# EAGLE library part SDB628 (library Deegou_IC)
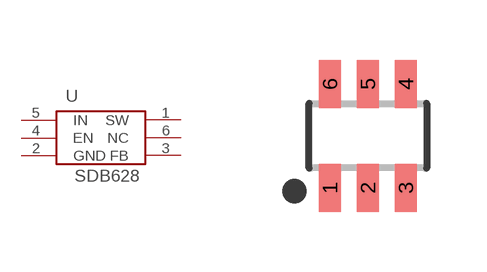
[diagram p3: symbol with the pads of SOT23-6; footprint SOT23-6]

Designator prefix U

## SDB628  [SOT23-6]
1  SW
2  GND
3  FB
4  EN
5  IN
6  NC

## Footprint SOT23-6 (pad centres in mm)
SOT-23 - DBV 0.95 mm pitch
smd 0.55 x 1.2: 1 -0.95,-1.3; 2 0,-1.3; 3 0.95,-1.3; 4 0.95,1.3; 5 0,1.3; 6 -0.95,1.3